# Altium schematic symbol library SCH - MCU - NUVOTON - NUVOTON M0A23EC1AC.SchLib: 1 symbol
Pins are listed as number, name and electrical type; pins without a type are passive.

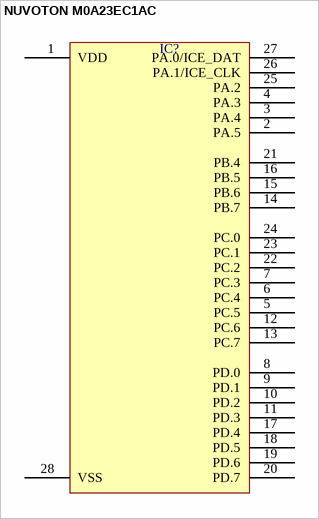
[diagram p0: symbol NUVOTON M0A23EC1AC]

## NUVOTON M0A23EC1AC
designator IC?  (value not drawn)
pins: 1 VDD, 2 PA.5, 3 PA.4, 4 PA.3, 5 PC.5, 6 PC.4, 7 PC.3, 8 PD.0, 9 PD.1, 10 PD.2, 11 PD.3, 12 PC.6, 13 PC.7, 14 PB.7, 15 PB.6, 16 PB.5, 17 PD.4, 18 PD.5, 19 PD.6, 20 PD.7, 21 PB.4, 22 PC.2, 23 PC.1, 24 PC.0, 25 PA.2, 26 PA.1/ICE_CLK, 27 PA.0/ICE_DAT, 28 VSS